# EAGLE library part AP1509-33 (library ck_custom)
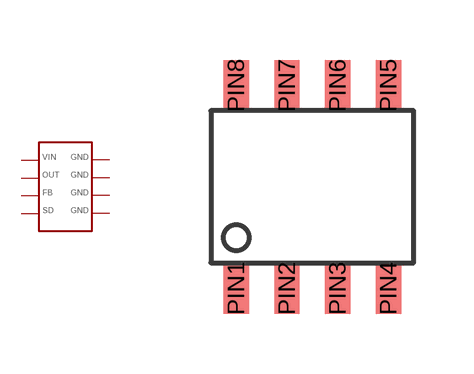
[diagram p0: symbol with the pads of SOIC8; footprint SOIC8]

Designator prefix -

## AP1509-33  [SOIC8]
PIN1  V_IN
PIN2  V_OUT
PIN3  FB
PIN4  SD
PIN5  GND1
PIN6  GND2
PIN7  GND3
PIN8  GND4

## Footprint SOIC8 (pad centres in mm)
SOIC8 package type.
smd 0.635 x 1.27: PIN1 0.635,-0.635; PIN2 1.905,-0.635; PIN3 3.175,-0.635; PIN4 4.445,-0.635; PIN5 4.445,4.445; PIN6 3.175,4.445; PIN7 1.905,4.445; PIN8 0.635,4.445